# Altium footprint library Electromechanical Pad Lib.PcbLib: 6 footprints
Each footprint in its own frame and in the unit in brackets; x right, y up, seen from the top. Pads: shape width x height; smd on the part's side, far side on the other; paste and mask are expansions set on the pad; w line width, h text height; cw(c..) or ccw(c..) is an arc to the next point about the centre after c.
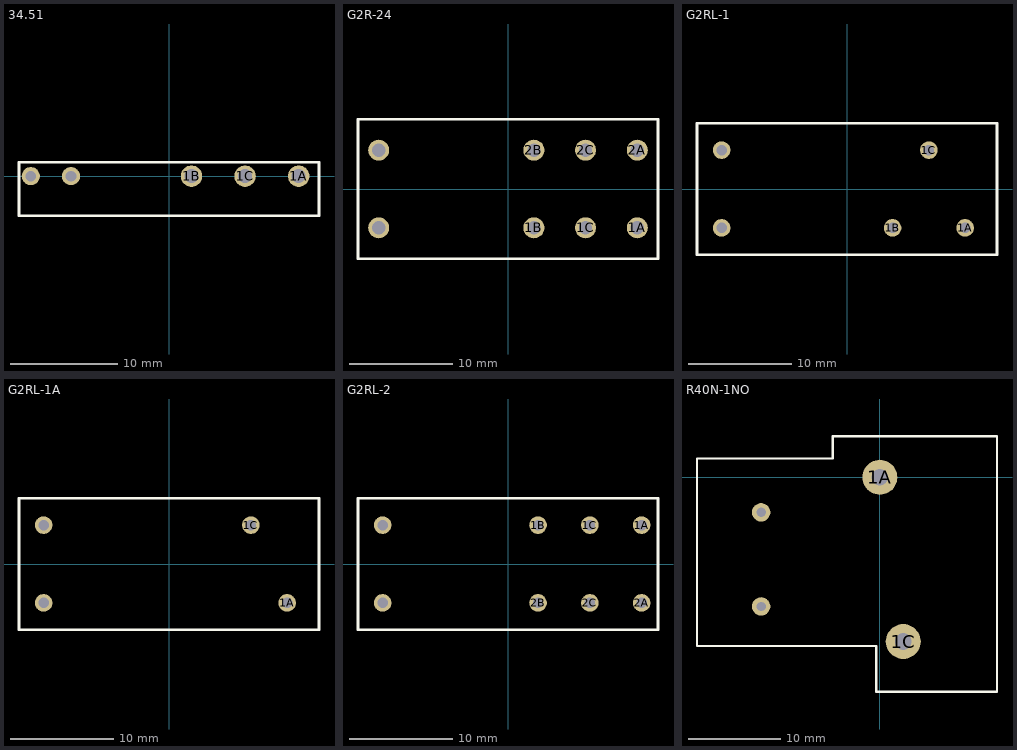
[diagram p0: the footprints below, top view; thin cyan lines are the x and y axes]

## 34.51 [mm] "Relay 34.51x series (Finder)"
height 15
pads (5):
  round 2 hole 1.3: 1A(12.1,0) 1B(2.1,0) 1C(7.1,0)
  round 1.7 hole 1: CoilA(-12.9,0) CoilB(-9.15,0)
Top Overlay:
  lines w0.254: -14,-3.7 -14,1.3 14,1.3 14,-3.7 -14,-3.7
3D body "34 Series.STEP": height 14.7, standoff -3.8, extent -14,-3.7 14,1.3

## G2R-24 [mm]
pads (8):
  round 2.032 hole 1.27: 1A(12.5,-3.75) 1B(2.5,-3.75) 1C(7.5,-3.75) 2A(12.5,3.75) 2B(2.5,3.75) 2C(7.5,3.75) CoilA(-12.5,-3.75) CoilB(-12.5,3.75)
Top Overlay:
  lines w0.254: -14.5,-6.75 -14.5,6.75 14.5,6.75 14.5,-6.75 -14.5,-6.75
3D body "G2R-24.STEP": height 25.5, standoff -4, extent -14.5,-6.75 14.5,6.75

## G2RL-1 [mm] "G2RL-1 (Omron)"
height 15.7
pads (5):
  round 1.7 hole 1: 1A(11.4,-3.75) 1B(4.4,-3.75) 1C(7.9,3.75) CoilA(-12.1,-3.75) CoilB(-12.1,3.75)
Top Overlay:
  lines w0.254: -14.478,-6.35 -14.478,6.35 14.478,6.35 14.478,-6.35 -14.478,-6.35
3D body "G2RL-1.STEP": height 15.75, standoff -3.45, extent -14.5,-6.35 14.5,6.35

## G2RL-1A [mm] "G2RL-1A (Omron)"
height 15.7
pads (4):
  round 1.7 hole 1: 1A(11.4,-3.75) 1C(7.9,3.75) CoilA(-12.1,-3.75) CoilB(-12.1,3.75)
Top Overlay:
  lines w0.254: -14.478,-6.35 -14.478,6.35 14.478,6.35 14.478,-6.35 -14.478,-6.35
3D body "G2RL-1.STEP": height 15.75, standoff -3.45, extent -14.5,-6.35 14.5,6.35

## G2RL-2 [mm] "G2RL-2 (Omron)"
height 15.7
pads (8):
  round 1.7 hole 1: 1A(12.9,3.75) 1B(2.9,3.75) 1C(7.9,3.75) 2A(12.9,-3.75) 2B(2.9,-3.75) 2C(7.9,-3.75) CoilA(-12.1,3.75) CoilB(-12.1,-3.75)
Top Overlay:
  lines w0.254: -14.478,-6.35 -14.478,6.35 14.478,6.35 14.478,-6.35 -14.478,-6.35
3D body "G2RL-2.STEP": height 15.75, standoff -3.45, extent -14.5,-6.35 14.5,6.35

## R40N-1NO [mm] "R40N"
height 20.5
pads (4):
  round 3.8 hole 1.8: 1A(0,0) 1C(2.54,-17.8)
  round 2 hole 1: CoilA(-12.86,-14) CoilB(-12.86,-3.8)
Top Overlay:
  lines w0.254: -19.812,-18.288 -19.812,2.032 -5.105,2.032 -5.105,4.445 12.7,4.445 12.7,-23.241 -0.381,-23.241 -0.381,-18.288 -19.812,-18.288
3D body "R40N-3021.STEP": height 18.27, standoff -3.5, extent -19.686,-23.113 12.574,4.317